# Altium footprint library PCB - CONNECTOR - JST - JST B04B-XASK-1.PCBLIB: 1 footprints
Each footprint in its own frame and in the unit in brackets; x right, y up, seen from the top. Pads: shape width x height; smd on the part's side, far side on the other; paste and mask are expansions set on the pad; w line width, h text height; cw(c..) or ccw(c..) is an arc to the next point about the centre after c.
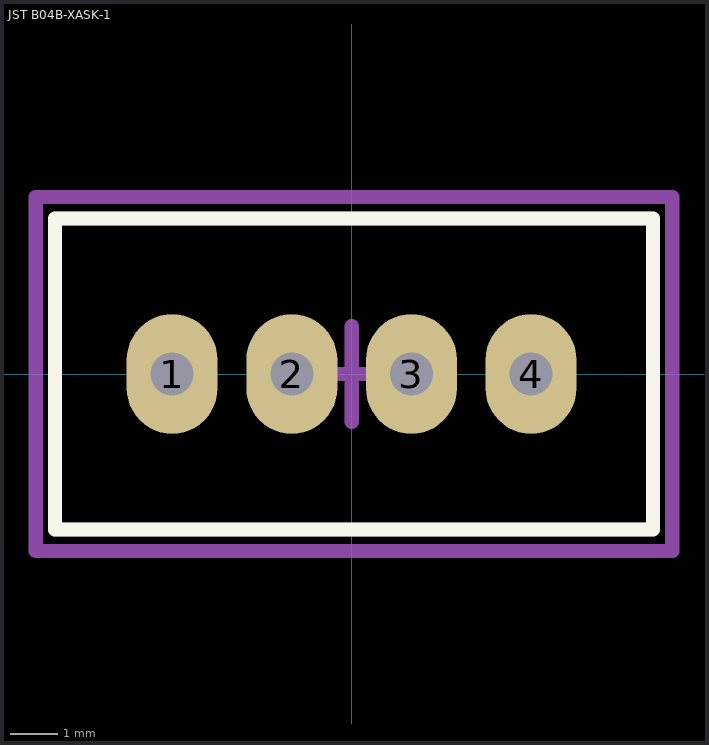
[diagram p0: the footprint, top view; thin cyan lines are the x and y axes]

## JST B04B-XASK-1 [mm] "2.5 mm pitch/Disconnectable Crimp style connectors"
height 11.3
pads (4):
  oval 1.9x2.5 hole 0.9: 1(-3.75,0) 2(-1.25,0) 3(1.25,0) 4(3.75,0)
Top Overlay:
  lines w0.3: -6.2,-3.25 6.3,-3.25 6.3,3.25 -6.2,3.25 -6.2,-3.25
Top Component Outline:
  lines w0.3: -6.2,-3.25 6.3,-3.25 6.3,3.25 -6.2,3.25 -6.2,-3.25
Top Courtyard (Mech15):
  lines w0.3: -1,0 1,0 ; 0,-1 0,1 ; -6.6,-3.7 6.7,-3.7 6.7,3.7 -6.6,3.7 -6.6,-3.7
3D body "JST B04B-XASK-1.step": height 8.8, standoff -3.4, extent -6.25,-3.2 6.25,3.2